# Altium schematic symbol library PCB_ANT.SchLib: 1 symbol
Pins are listed as number, name and electrical type; pins without a type are passive.

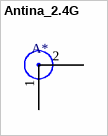
[diagram p0: symbol Antina_2.4G]

## Antina_2.4G
designator A*
footprint Antina_2.4G
footprint Antina 3216
pins: 1, 2